# Altium schematic symbol library AMT.SchLib: 2 symbols
Pins are listed as number, name and electrical type; pins without a type are passive.

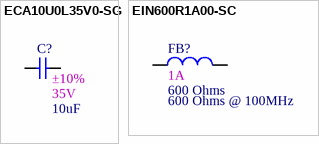
[diagram p0: symbols ECA10U0L35V0-SG to EIN600R1A00-SC]

## ECA10U0L35V0-SG
designator C?, comment value 10uF  2nd Auxiliary Field: ±10%  1st Auxiliary Field: 35V  (hidden comment: CAP CER 10UF 35V X7R 1206)
Manufacturer: TDK Corporation; Vendor Part Number: 445-174428-1-ND; Manufacturer Part Number: CGA5L1X7R1V106K160AC; Internal Part Number: ECA10U0L35V0-SG; Vendor Name: Digi-Key; 3rd Auxiliary Field: RoHS Compliant; 4th Auxiliary Field: AEC-Q200; Component Height (mm): 1.80mm; Temp Co: -55°C ~ 125°C; Part Type: CAP CER 10UF 35V X7R 1206
footprint SMDC1206
pins: 1, 2

## EIN600R1A00-SC
designator FB?, comment value 600 Ohms  2nd Auxiliary Field: 600 Ohms @ 100MHz  1st Auxiliary Field: 1A  (hidden comment: FERRITE BEAD 600 OHM 0603 1LN)
Manufacturer: Würth Elektronik; Internal Part Number: EIN600R1A00-SC; Manufacturer Part Number: 782633601; Vendor Part Number: 732-6703-1-ND; 3rd Auxiliary Field: ROHS3 Compliant; Component Height (mm): 1.00mm; 4th Auxiliary Field: AEC-Q200; Vendor Name: Digi-Key; Temp Co: -55°C ~ 125°C; Part Type: FERRITE BEAD 600 OHM 0603 1LN
footprint SMDL0603
pins: 1, 2
1 alternate drawing of the same symbol